# Altium footprint library Capacitor - Electrolytic.PcbLib: 177 footprints (part 10 of 12)
Each footprint in its own frame and in the unit in brackets; x right, y up, seen from the top. Pads: shape width x height; smd on the part's side, far side on the other; paste and mask are expansions set on the pad; w line width, h text height; cw(c..) or ccw(c..) is an arc to the next point about the centre after c.
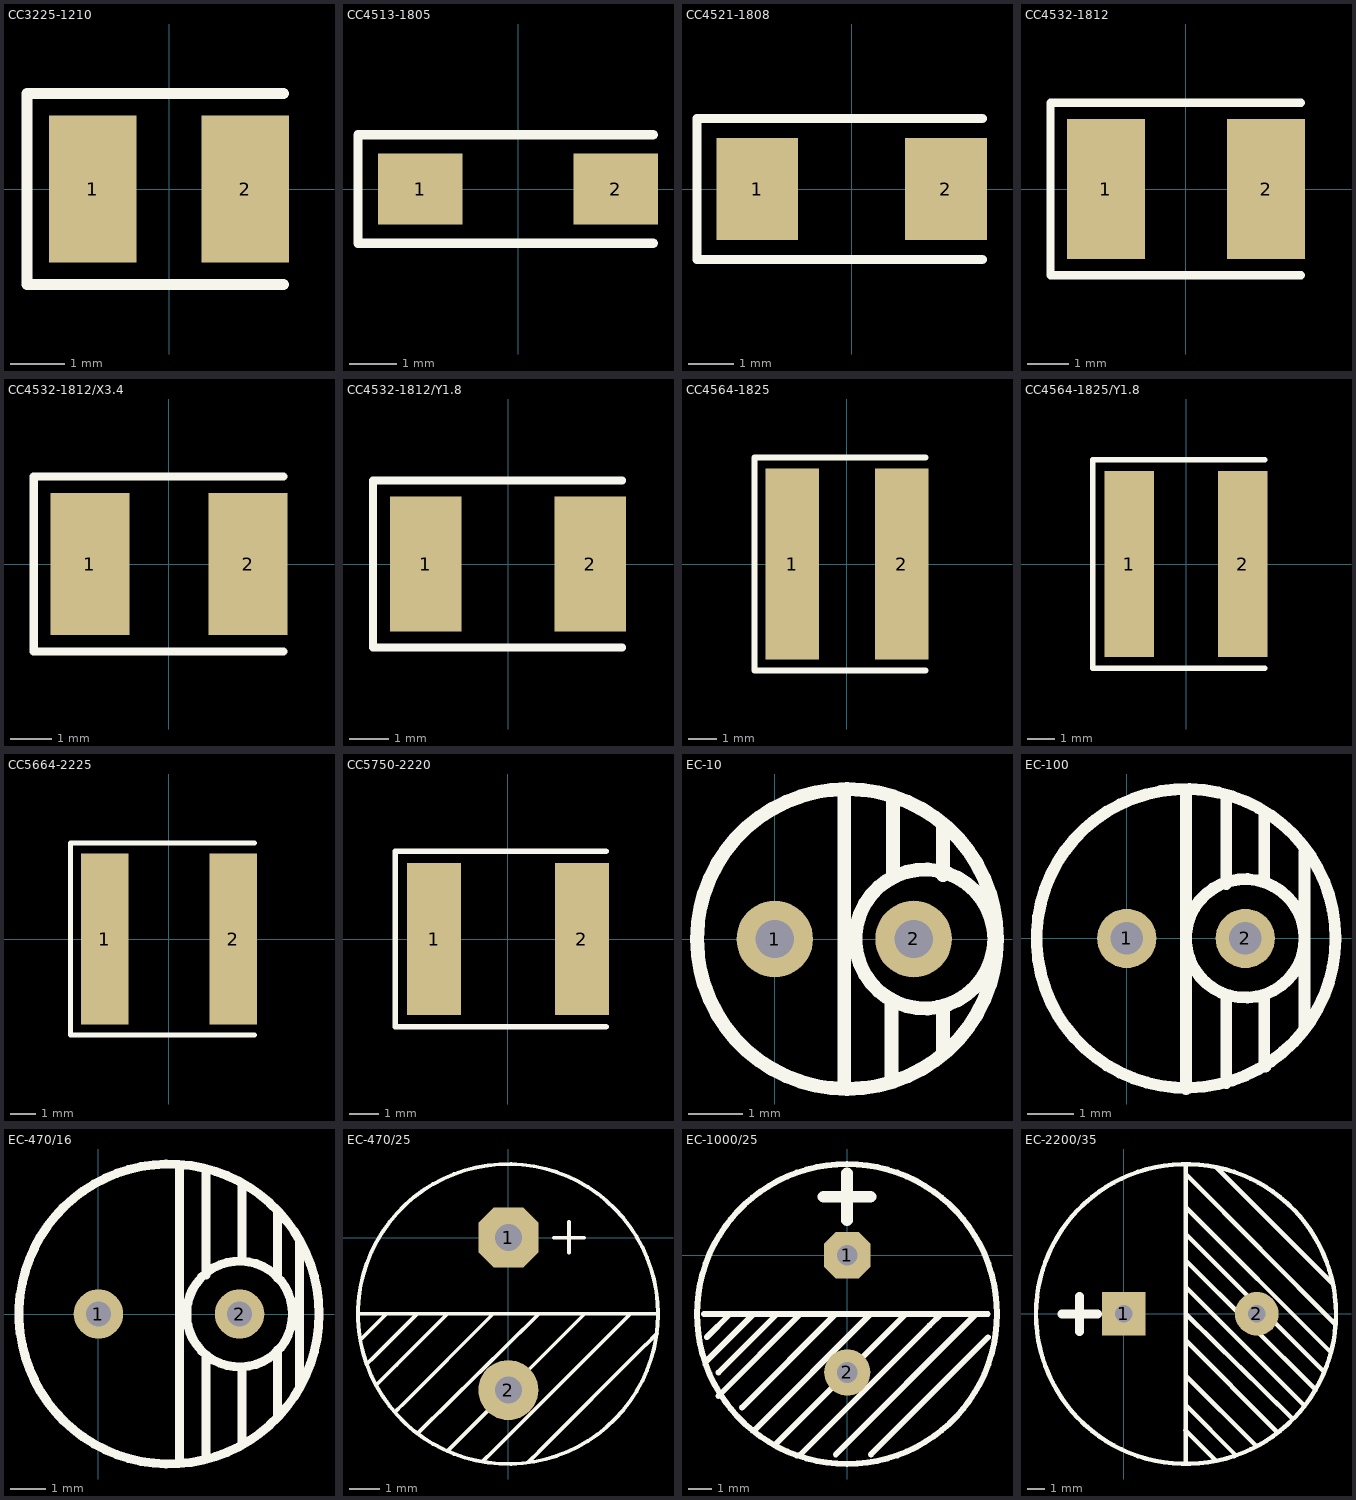
[diagram p9: the footprints below, top view; thin cyan lines are the x and y axes]

## CC3225-1210 [mm]
pads (2):
  rect 1.6x2.7 smd: 1(-1.4,0) 2(1.4,0)
Top Overlay:
  lines w0.2: 2.1,-1.75 -2.6,-1.75 -2.6,1.75 2.1,1.75

## CC4513-1805 [mm]
pads (2):
  rect 1.8x1.5 smd: 1(-2.075,0) 2(2.075,0)
Top Overlay:
  lines w0.2: 2.875,-1.15 -3.4,-1.15 -3.4,1.15 2.875,1.15

## CC4521-1808 [mm]
pads (2):
  rect 1.8x2.25 smd: 1(-2.075,0) 2(2.075,0)
Top Overlay:
  lines w0.2: 2.875,-1.55 -3.4,-1.55 -3.4,1.55 2.875,1.55

## CC4532-1812 [mm]
pads (2):
  rect 1.9x3.4 smd: 1(-1.95,0) 2(1.95,0)
Top Overlay:
  lines w0.2: 2.8,-2.1 -3.3,-2.1 -3.3,2.1 2.8,2.1

## CC4532-1812/X3.4 [mm]
pads (2):
  rect 1.9x3.4 smd: 1(-1.9,0) 2(1.9,0)
Top Overlay:
  lines w0.2: 2.75,-2.1 -3.25,-2.1 -3.25,2.1 2.75,2.1

## CC4532-1812/Y1.8 [mm]
pads (2):
  rect 1.8x3.4 smd: 1(-2.075,0) 2(2.075,0)
Top Overlay:
  lines w0.2: 2.875,-2.1 -3.4,-2.1 -3.4,2.1 2.875,2.1

## CC4564-1825 [mm]
pads (2):
  rect 1.9x6.8 smd: 1(-1.95,0) 2(1.95,0)
Top Overlay:
  lines w0.2: 2.8,-3.8 -3.3,-3.8 -3.3,3.8 2.8,3.8

## CC4564-1825/Y1.8 [mm]
pads (2):
  rect 1.8x6.8 smd: 1(-2.075,0) 2(2.075,0)
Top Overlay:
  lines w0.2: 2.875,-3.8 -3.4,-3.8 -3.4,3.8 2.875,3.8

## CC5664-2225 [mm]
pads (2):
  rect 1.9x6.8 smd: 1(-2.55,0) 2(2.55,0)
Top Overlay:
  lines w0.2: 3.4,-3.8 -3.9,-3.8 -3.9,3.8 3.4,3.8

## CC5750-2220 [mm]
pads (2):
  rect 1.85x5.2 smd: 1(-2.525,0) 2(2.525,0)
Top Overlay:
  lines w0.2: 3.35,-3 -3.85,-3 -3.85,3 3.35,3

## EC-10 [mm]
pads (2):
  round 1.4 hole 0.7: 1(0,0) 2(2.54,0)
Top Overlay:
  circle w0.254: c2.743,0 r1.27
  circle w0.254: c1.321,0 r2.743
  lines w0.254: 1.27,-2.7 1.27,2.667 ; 2.134,-2.54 2.134,-1.219 ; 2.159,1.194 2.159,2.565 ; 3.073,-2.032 3.073,-1.33 ; 3.073,1.168 3.073,2.032
3D body: height 11.53, standoff -3.27, extent -1.23,-2.515 3.821,2.536

## EC-100 [mm]
pads (2):
  round 1.27 hole 0.7: 1(0,0) 2(2.54,0)
Top Overlay:
  circle w0.254: c1.27,0 r3.2
  circle w0.254: c2.54,0 r1.27
  lines w0.254: 1.27,-3.226 1.27,3.175 ; 2.134,-3.099 2.134,-1.245 ; 2.134,1.168 2.134,3.023 ; 2.946,-1.245 2.946,-2.718 2.972,-2.743 ; 2.946,1.219 2.946,2.667 ; 3.81,-1.88 3.81,1.854
3D body: height 13.03, standoff -3.01, extent -1.981,-3.099 4.37,3.252

## EC-470/16 [mm]
pads (2):
  round 1.4 hole 0.7: 1(0,0) 2(4,0)
Top Overlay:
  circle w0.254: c2,0 r4.25
  circle w0.254: c4,0 r1.5
  lines w0.254: 2.3,-4.2 2.3,4.2 ; 3.048,-4.1 3.048,-1.2 ; 3.048,1.1 3.048,4.1 ; 4.064,-3.7 4.064,-1.524 ; 4.064,1.524 4.064,3.7 ; 5.08,-2.9 5.08,-1.016 ; 5.08,1.016 5.08,2.9 ; 5.7,-2.032 5.7,2.032
3D body: height 12, standoff -19, extent -2.269,-4.191 6.231,4.309

## EC-470/25 [mm]
pads (2):
  oct 2x2 hole 0.9: 1(0,0)
  round 2 hole 0.9: 2(0,-5.08)
Top Overlay:
  circle w0.127: c-0.013,-2.546 r5
  lines w0.127: -5,-2.546 4.886,-2.537 ; -4.928,-3.404 -4.063,-2.539 -4.059,-2.539 ; -4.724,-4.216 -4.571,-4.063 -4.567,-4.063 -3.05,-2.546 ; -4.394,-4.902 -3.738,-4.246 -3.734,-4.246 ; -4.059,-4.571 -2.027,-2.539 ; -3.759,-5.791 -3.555,-5.587 -3.551,-5.587 -0.503,-2.539 ; -3,-6.5 1.021,-2.539 ; -2.027,-7.111 2.545,-2.539 ; -0.864,-7.468 -0.507,-7.111 -0.503,-7.111 3.561,-3.047 4.069,-2.539 ; 0.686,-7.468 1.018,-7.135 1.018,-7.127 4.574,-3.571 4.583,-3.571 4.953,-3.2 ; 1.511,-0.006 2.527,-0.006 ; 2.019,-0.505 2.019,0.519
3D body: height 16.53, standoff -3.74, extent -5.051,-7.62 5,2.431

## EC-1000/25 [mm]
pads (2):
  oct 2x2 hole 0.9: 1(0,0)
  round 2 hole 0.9: 2(0,-5.08)
Top Overlay:
  circle w0.254: c-0.013,-2.546 r6.5
  lines w0.254: -6.213,-2.546 6.088,-2.546 ; -6.091,-4.571 -4.059,-2.539 ; -6.091,-3.555 -5.082,-2.546 -5.075,-2.546 ; -5.583,-6.095 -2.027,-2.539 ; -5.583,-5.079 -3.05,-2.546 -3.043,-2.546 ; -4.567,-6.603 -0.503,-2.539 ; -4.059,-7.619 1.021,-2.539 ; -3.043,-8.127 2.545,-2.539 ; -2.027,-8.635 3.561,-3.047 4.069,-2.539 ; -0.503,-8.635 5.593,-2.539 ; 1.021,-8.635 6.101,-3.555
  lines w0.508: -1.029,2.534 1.003,2.534 ; -0.013,1.518 -0.013,3.55
3D body: height 25.4, standoff -28.75, extent -6.647,-9.169 6.553,4.031

## EC-2200/35 [mm]
pads (2):
  rect 2.5x2.5 hole 1: 1(0,0)
  round 2.5 hole 1: 2(7.62,0)
Top Overlay:
  circle w0.254: c3.562,-0.013 r8.6
  lines w0.254: 3.531,-6.68 5.25,-8.4 ; 3.555,-8.58 3.555,8.55 ; 3.555,-5.583 3.555,-5.075 ; 3.555,-3.551 7.6,-7.6 ; 3.555,-1.519 8.8,-6.8 ; 3.555,0.005 9.65,-6 ; 3.555,2.037 3.555,1.529 10.36,-5.28 ; 3.555,3.053 11,-4.36 ; 3.555,4.577 11.5,-3.35 ; 3.555,6.101 11.87,-2.22 ; 3.556,8.001 12.152,-0.635 ; 3.581,-5.258 6.4,-8.1 ; 5.3,8.4 11.98,1.721
  lines w0.508: -3.55,-0.013 -1.518,-0.013 ; -2.534,-1.029 -2.534,1.003
3D body: height 16, standoff -1.5, extent -5.241,-8.966 12.759,9.034